# Altium schematic symbol library Res and Cap.SchLib: 3 symbols
Pins are listed as number, name and electrical type; pins without a type are passive.

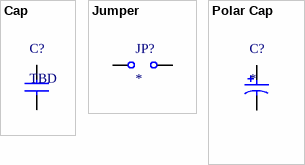
[diagram p0: symbols Cap to Polar Cap]

## Cap
designator C?, comment TBD
footprint Ceramic Cap 5mm (Cermaic Cap 5mm pitch)
pins: 1, 2

## Jumper
designator JP?
footprint Jumper (Cermaic Cap 5mm pitch)
pins: 1, 2

## Polar Cap
designator C?
footprint Alu Cap 5x2mm (Cylindrical Cap, 5mm Can, 2mm Pitch)
footprint Alu Cap 6x2mm (Cylindrical Cap, 6mm Can, 2mm Pitch)
footprint Alu Cap 6.3x2.5mm (Cylindrical Cap, 6.3mm Can, 2.5mm Pitch)
footprint Alu Cap 5x2.5mm (Cylindrical Cap, 5mm Can, 2mm Pitch)
pins: 1, 2